# Altium integrated library NFM41PC155B1E3L.IntLib: 1 symbol
Pins are listed as number, name and electrical type; pins without a type are passive.

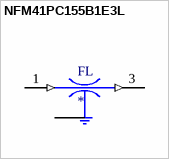
[diagram p0: symbol NFM41PC155B1E3L]

## NFM41PC155B1E3L
designator FL
Конденсатор SMD с емкостью: 1.5 МКФ Тол. 20%. Номинальное напряжение: 25Vdc; MF: Murata; MP: NFM41PC155B1E3L
footprint FIL_NFM41PC155B1E3L
pins: 1 IN (in), 2 GND (power), 2_1 GND (power), 2_3 GND (power), 2_4 GND (power), 3 OUT (out)